# Altium footprint library BGA (1.27mm Pitch, Square5).PcbLib: 12 footprints (part 6 of 6)
Each footprint in its own frame and in the unit in brackets; x right, y up, seen from the top. Pads: shape width x height; smd on the part's side, far side on the other; paste and mask are expansions set on the pad; w line width, h text height; cw(c..) or ccw(c..) is an arc to the next point about the centre after c.
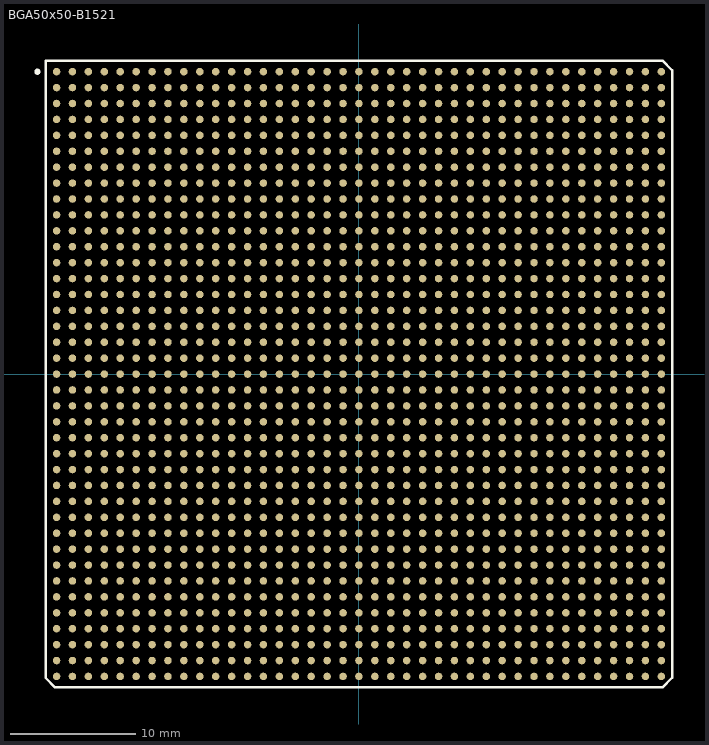
[diagram p5: the footprint, top view; thin cyan lines are the x and y axes]

## BGA50x50-B1521 [mm] "BGA; 1521 Balls; Body 50 x 50 mm; Pitch 1.27 mm"
height 3.5
pads (1521):
  round 0.6 smd: A1(-24.13,24.13) A2(-22.86,24.13) A3(-21.59,24.13) A4(-20.32,24.13) A5(-19.05,24.13) A6(-17.78,24.13) A7(-16.51,24.13) A8(-15.24,24.13) A9(-13.97,24.13) A10(-12.7,24.13) A11(-11.43,24.13) A12(-10.16,24.13) A13(-8.89,24.13) A14(-7.62,24.13) A15(-6.35,24.13) A16(-5.08,24.13) A17(-3.81,24.13) A18(-2.54,24.13) A19(-1.27,24.13) A20(0,24.13) A21(1.27,24.13) A22(2.54,24.13) A23(3.81,24.13) A24(5.08,24.13) A25(6.35,24.13) A26(7.62,24.13) A27(8.89,24.13) A28(10.16,24.13) A29(11.43,24.13) A30(12.7,24.13) A31(13.97,24.13) A32(15.24,24.13) A33(16.51,24.13) A34(17.78,24.13) A35(19.05,24.13) A36(20.32,24.13) A37(21.59,24.13) A38(22.86,24.13) A39(24.13,24.13) AA1(-24.13,-1.27) AA2(-22.86,-1.27) AA3(-21.59,-1.27) AA4(-20.32,-1.27) AA5(-19.05,-1.27) AA6(-17.78,-1.27) AA7(-16.51,-1.27) AA8(-15.24,-1.27) AA9(-13.97,-1.27) AA10(-12.7,-1.27) AA11(-11.43,-1.27) AA12(-10.16,-1.27) AA13(-8.89,-1.27) AA14(-7.62,-1.27) AA15(-6.35,-1.27) AA16(-5.08,-1.27) AA17(-3.81,-1.27) AA18(-2.54,-1.27) AA19(-1.27,-1.27) AA20(0,-1.27) AA21(1.27,-1.27) AA22(2.54,-1.27) AA23(3.81,-1.27) AA24(5.08,-1.27) AA25(6.35,-1.27) AA26(7.62,-1.27) AA27(8.89,-1.27) AA28(10.16,-1.27) AA29(11.43,-1.27) AA30(12.7,-1.27) AA31(13.97,-1.27) AA32(15.24,-1.27) AA33(16.51,-1.27) AA34(17.78,-1.27) AA35(19.05,-1.27) AA36(20.32,-1.27) AA37(21.59,-1.27) AA38(22.86,-1.27) AA39(24.13,-1.27) AB1(-24.13,-2.54) AB2(-22.86,-2.54) AB3(-21.59,-2.54) AB4(-20.32,-2.54) AB5(-19.05,-2.54) AB6(-17.78,-2.54) AB7(-16.51,-2.54) AB8(-15.24,-2.54) AB9(-13.97,-2.54) AB10(-12.7,-2.54) AB11(-11.43,-2.54) AB12(-10.16,-2.54) AB13(-8.89,-2.54) AB14(-7.62,-2.54) AB15(-6.35,-2.54) AB16(-5.08,-2.54) AB17(-3.81,-2.54) AB18(-2.54,-2.54) AB19(-1.27,-2.54) AB20(0,-2.54) AB21(1.27,-2.54) AB22(2.54,-2.54) AB23(3.81,-2.54) AB24(5.08,-2.54) AB25(6.35,-2.54) AB26(7.62,-2.54) AB27(8.89,-2.54) AB28(10.16,-2.54) AB29(11.43,-2.54) AB30(12.7,-2.54) AB31(13.97,-2.54) AB32(15.24,-2.54) AB33(16.51,-2.54) AB34(17.78,-2.54) AB35(19.05,-2.54) AB36(20.32,-2.54) AB37(21.59,-2.54) AB38(22.86,-2.54) AB39(24.13,-2.54) AC1(-24.13,-3.81) AC2(-22.86,-3.81) AC3(-21.59,-3.81) AC4(-20.32,-3.81) AC5(-19.05,-3.81) AC6(-17.78,-3.81) AC7(-16.51,-3.81) AC8(-15.24,-3.81) AC9(-13.97,-3.81) AC10(-12.7,-3.81) AC11(-11.43,-3.81) AC12(-10.16,-3.81) AC13(-8.89,-3.81) AC14(-7.62,-3.81) AC15(-6.35,-3.81) AC16(-5.08,-3.81) AC17(-3.81,-3.81) AC18(-2.54,-3.81) AC19(-1.27,-3.81) AC20(0,-3.81) AC21(1.27,-3.81) AC22(2.54,-3.81) AC23(3.81,-3.81) AC24(5.08,-3.81) AC25(6.35,-3.81) AC26(7.62,-3.81) AC27(8.89,-3.81) AC28(10.16,-3.81) AC29(11.43,-3.81) AC30(12.7,-3.81) AC31(13.97,-3.81) AC32(15.24,-3.81) AC33(16.51,-3.81) AC34(17.78,-3.81) AC35(19.05,-3.81) AC36(20.32,-3.81) AC37(21.59,-3.81) AC38(22.86,-3.81) AC39(24.13,-3.81) AD1(-24.13,-5.08) AD2(-22.86,-5.08) AD3(-21.59,-5.08) AD4(-20.32,-5.08) AD5(-19.05,-5.08) AD6(-17.78,-5.08) AD7(-16.51,-5.08) AD8(-15.24,-5.08) AD9(-13.97,-5.08) AD10(-12.7,-5.08) AD11(-11.43,-5.08) AD12(-10.16,-5.08) AD13(-8.89,-5.08) AD14(-7.62,-5.08) AD15(-6.35,-5.08) AD16(-5.08,-5.08) AD17(-3.81,-5.08) AD18(-2.54,-5.08) AD19(-1.27,-5.08) AD20(0,-5.08) AD21(1.27,-5.08) AD22(2.54,-5.08) AD23(3.81,-5.08) AD24(5.08,-5.08) AD25(6.35,-5.08) AD26(7.62,-5.08) AD27(8.89,-5.08) AD28(10.16,-5.08) AD29(11.43,-5.08) AD30(12.7,-5.08) AD31(13.97,-5.08) AD32(15.24,-5.08) AD33(16.51,-5.08) AD34(17.78,-5.08) AD35(19.05,-5.08) AD36(20.32,-5.08) AD37(21.59,-5.08) AD38(22.86,-5.08) AD39(24.13,-5.08) AE1(-24.13,-6.35) AE2(-22.86,-6.35) AE3(-21.59,-6.35) AE4(-20.32,-6.35) AE5(-19.05,-6.35) AE6(-17.78,-6.35) AE7(-16.51,-6.35) AE8(-15.24,-6.35) AE9(-13.97,-6.35) AE10(-12.7,-6.35) AE11(-11.43,-6.35) AE12(-10.16,-6.35) AE13(-8.89,-6.35) AE14(-7.62,-6.35) AE15(-6.35,-6.35) AE16(-5.08,-6.35) AE17(-3.81,-6.35) AE18(-2.54,-6.35) AE19(-1.27,-6.35) AE20(0,-6.35) AE21(1.27,-6.35) AE22(2.54,-6.35) AE23(3.81,-6.35) AE24(5.08,-6.35) AE25(6.35,-6.35) AE26(7.62,-6.35) AE27(8.89,-6.35) AE28(10.16,-6.35) AE29(11.43,-6.35) AE30(12.7,-6.35) AE31(13.97,-6.35) AE32(15.24,-6.35) AE33(16.51,-6.35) AE34(17.78,-6.35) AE35(19.05,-6.35) AE36(20.32,-6.35) AE37(21.59,-6.35) AE38(22.86,-6.35) AE39(24.13,-6.35) AF1(-24.13,-7.62) AF2(-22.86,-7.62) AF3(-21.59,-7.62) AF4(-20.32,-7.62) AF5(-19.05,-7.62) AF6(-17.78,-7.62) AF7(-16.51,-7.62) AF8(-15.24,-7.62) AF9(-13.97,-7.62) AF10(-12.7,-7.62) AF11(-11.43,-7.62) AF12(-10.16,-7.62) AF13(-8.89,-7.62) AF14(-7.62,-7.62) AF15(-6.35,-7.62) AF16(-5.08,-7.62) AF17(-3.81,-7.62) AF18(-2.54,-7.62) AF19(-1.27,-7.62) AF20(0,-7.62) AF21(1.27,-7.62) AF22(2.54,-7.62) AF23(3.81,-7.62) AF24(5.08,-7.62) AF25(6.35,-7.62) AF26(7.62,-7.62) AF27(8.89,-7.62) AF28(10.16,-7.62) AF29(11.43,-7.62) AF30(12.7,-7.62) AF31(13.97,-7.62) AF32(15.24,-7.62) AF33(16.51,-7.62) AF34(17.78,-7.62) AF35(19.05,-7.62) AF36(20.32,-7.62) AF37(21.59,-7.62) AF38(22.86,-7.62) AF39(24.13,-7.62) AG1(-24.13,-8.89) AG2(-22.86,-8.89) AG3(-21.59,-8.89) AG4(-20.32,-8.89) AG5(-19.05,-8.89) AG6(-17.78,-8.89) AG7(-16.51,-8.89) AG8(-15.24,-8.89) AG9(-13.97,-8.89) AG10(-12.7,-8.89) AG11(-11.43,-8.89) AG12(-10.16,-8.89) AG13(-8.89,-8.89) AG14(-7.62,-8.89) AG15(-6.35,-8.89) AG16(-5.08,-8.89) AG17(-3.81,-8.89) AG18(-2.54,-8.89) AG19(-1.27,-8.89) AG20(0,-8.89) AG21(1.27,-8.89) AG22(2.54,-8.89) AG23(3.81,-8.89) AG24(5.08,-8.89) AG25(6.35,-8.89) AG26(7.62,-8.89) AG27(8.89,-8.89) AG28(10.16,-8.89) AG29(11.43,-8.89) AG30(12.7,-8.89) AG31(13.97,-8.89) AG32(15.24,-8.89) AG33(16.51,-8.89) AG34(17.78,-8.89) AG35(19.05,-8.89) AG36(20.32,-8.89) AG37(21.59,-8.89) AG38(22.86,-8.89) AG39(24.13,-8.89) AH1(-24.13,-10.16) AH2(-22.86,-10.16) AH3(-21.59,-10.16) AH4(-20.32,-10.16) AH5(-19.05,-10.16) AH6(-17.78,-10.16) AH7(-16.51,-10.16) AH8(-15.24,-10.16) AH9(-13.97,-10.16) AH10(-12.7,-10.16) AH11(-11.43,-10.16) AH12(-10.16,-10.16) AH13(-8.89,-10.16) AH14(-7.62,-10.16) AH15(-6.35,-10.16) AH16(-5.08,-10.16) AH17(-3.81,-10.16) AH18(-2.54,-10.16) AH19(-1.27,-10.16) AH20(0,-10.16) AH21(1.27,-10.16) AH22(2.54,-10.16) AH23(3.81,-10.16) AH24(5.08,-10.16) AH25(6.35,-10.16) AH26(7.62,-10.16) AH27(8.89,-10.16) AH28(10.16,-10.16) AH29(11.43,-10.16) AH30(12.7,-10.16) AH31(13.97,-10.16) AH32(15.24,-10.16) AH33(16.51,-10.16) AH34(17.78,-10.16) AH35(19.05,-10.16) AH36(20.32,-10.16) AH37(21.59,-10.16) AH38(22.86,-10.16) AH39(24.13,-10.16) AJ1(-24.13,-11.43) AJ2(-22.86,-11.43) AJ3(-21.59,-11.43) AJ4(-20.32,-11.43) AJ5(-19.05,-11.43) AJ6(-17.78,-11.43) AJ7(-16.51,-11.43) AJ8(-15.24,-11.43) AJ9(-13.97,-11.43) AJ10(-12.7,-11.43) AJ11(-11.43,-11.43) AJ12(-10.16,-11.43) AJ13(-8.89,-11.43) AJ14(-7.62,-11.43) AJ15(-6.35,-11.43) AJ16(-5.08,-11.43) AJ17(-3.81,-11.43) AJ18(-2.54,-11.43) AJ19(-1.27,-11.43) AJ20(0,-11.43) AJ21(1.27,-11.43) AJ22(2.54,-11.43) AJ23(3.81,-11.43) AJ24(5.08,-11.43) AJ25(6.35,-11.43) AJ26(7.62,-11.43) AJ27(8.89,-11.43) AJ28(10.16,-11.43) AJ29(11.43,-11.43) AJ30(12.7,-11.43) AJ31(13.97,-11.43) AJ32(15.24,-11.43) AJ33(16.51,-11.43) AJ34(17.78,-11.43) AJ35(19.05,-11.43) AJ36(20.32,-11.43) AJ37(21.59,-11.43) AJ38(22.86,-11.43) AJ39(24.13,-11.43) AK1(-24.13,-12.7) AK2(-22.86,-12.7) AK3(-21.59,-12.7) AK4(-20.32,-12.7) AK5(-19.05,-12.7) AK6(-17.78,-12.7) AK7(-16.51,-12.7) AK8(-15.24,-12.7) AK9(-13.97,-12.7) AK10(-12.7,-12.7) AK11(-11.43,-12.7) AK12(-10.16,-12.7) AK13(-8.89,-12.7) AK14(-7.62,-12.7) AK15(-6.35,-12.7) AK16(-5.08,-12.7) AK17(-3.81,-12.7) AK18(-2.54,-12.7) AK19(-1.27,-12.7) AK20(0,-12.7) AK21(1.27,-12.7) AK22(2.54,-12.7) AK23(3.81,-12.7) AK24(5.08,-12.7) AK25(6.35,-12.7) AK26(7.62,-12.7) AK27(8.89,-12.7) AK28(10.16,-12.7) AK29(11.43,-12.7) AK30(12.7,-12.7) AK31(13.97,-12.7) AK32(15.24,-12.7) AK33(16.51,-12.7) AK34(17.78,-12.7) AK35(19.05,-12.7) AK36(20.32,-12.7) AK37(21.59,-12.7) AK38(22.86,-12.7) AK39(24.13,-12.7) AL1(-24.13,-13.97) AL2(-22.86,-13.97) AL3(-21.59,-13.97) AL4(-20.32,-13.97) AL5(-19.05,-13.97) AL6(-17.78,-13.97) AL7(-16.51,-13.97) AL8(-15.24,-13.97) AL9(-13.97,-13.97) AL10(-12.7,-13.97) AL11(-11.43,-13.97) AL12(-10.16,-13.97) AL13(-8.89,-13.97) AL14(-7.62,-13.97) AL15(-6.35,-13.97) AL16(-5.08,-13.97) AL17(-3.81,-13.97) AL18(-2.54,-13.97) AL19(-1.27,-13.97) AL20(0,-13.97) AL21(1.27,-13.97) AL22(2.54,-13.97) AL23(3.81,-13.97) AL24(5.08,-13.97) AL25(6.35,-13.97) AL26(7.62,-13.97) AL27(8.89,-13.97) AL28(10.16,-13.97) AL29(11.43,-13.97) AL30(12.7,-13.97) AL31(13.97,-13.97) AL32(15.24,-13.97) AL33(16.51,-13.97) AL34(17.78,-13.97) AL35(19.05,-13.97) AL36(20.32,-13.97) AL37(21.59,-13.97) AL38(22.86,-13.97) AL39(24.13,-13.97) AM1(-24.13,-15.24) AM2(-22.86,-15.24) AM3(-21.59,-15.24) AM4(-20.32,-15.24) AM5(-19.05,-15.24) AM6(-17.78,-15.24) AM7(-16.51,-15.24) AM8(-15.24,-15.24) AM9(-13.97,-15.24) AM10(-12.7,-15.24) AM11(-11.43,-15.24) AM12(-10.16,-15.24) AM13(-8.89,-15.24) AM14(-7.62,-15.24) AM15(-6.35,-15.24) AM16(-5.08,-15.24) AM17(-3.81,-15.24) AM18(-2.54,-15.24) AM19(-1.27,-15.24) AM20(0,-15.24) AM21(1.27,-15.24) AM22(2.54,-15.24) AM23(3.81,-15.24) AM24(5.08,-15.24) AM25(6.35,-15.24) AM26(7.62,-15.24) AM27(8.89,-15.24) AM28(10.16,-15.24) AM29(11.43,-15.24) AM30(12.7,-15.24) AM31(13.97,-15.24) AM32(15.24,-15.24) AM33(16.51,-15.24) AM34(17.78,-15.24) AM35(19.05,-15.24) AM36(20.32,-15.24) AM37(21.59,-15.24) AM38(22.86,-15.24) AM39(24.13,-15.24) AN1(-24.13,-16.51) AN2(-22.86,-16.51) AN3(-21.59,-16.51) AN4(-20.32,-16.51) AN5(-19.05,-16.51) AN6(-17.78,-16.51) AN7(-16.51,-16.51) AN8(-15.24,-16.51) AN9(-13.97,-16.51) AN10(-12.7,-16.51) AN11(-11.43,-16.51) AN12(-10.16,-16.51) AN13(-8.89,-16.51) AN14(-7.62,-16.51) AN15(-6.35,-16.51) AN16(-5.08,-16.51) AN17(-3.81,-16.51) AN18(-2.54,-16.51) AN19(-1.27,-16.51) AN20(0,-16.51) AN21(1.27,-16.51) AN22(2.54,-16.51) AN23(3.81,-16.51) AN24(5.08,-16.51) AN25(6.35,-16.51) AN26(7.62,-16.51) AN27(8.89,-16.51) AN28(10.16,-16.51) AN29(11.43,-16.51) AN30(12.7,-16.51) AN31(13.97,-16.51) AN32(15.24,-16.51) AN33(16.51,-16.51) AN34(17.78,-16.51) AN35(19.05,-16.51) AN36(20.32,-16.51) AN37(21.59,-16.51) AN38(22.86,-16.51) AN39(24.13,-16.51) AP1(-24.13,-17.78) AP2(-22.86,-17.78) AP3(-21.59,-17.78) AP4(-20.32,-17.78) AP5(-19.05,-17.78) AP6(-17.78,-17.78) AP7(-16.51,-17.78) AP8(-15.24,-17.78) AP9(-13.97,-17.78) AP10(-12.7,-17.78) AP11(-11.43,-17.78) AP12(-10.16,-17.78) AP13(-8.89,-17.78) AP14(-7.62,-17.78) AP15(-6.35,-17.78) AP16(-5.08,-17.78) AP17(-3.81,-17.78) AP18(-2.54,-17.78) AP19(-1.27,-17.78) AP20(0,-17.78) AP21(1.27,-17.78) AP22(2.54,-17.78) AP23(3.81,-17.78) AP24(5.08,-17.78) AP25(6.35,-17.78) AP26(7.62,-17.78) AP27(8.89,-17.78) AP28(10.16,-17.78) AP29(11.43,-17.78) AP30(12.7,-17.78) AP31(13.97,-17.78) AP32(15.24,-17.78) AP33(16.51,-17.78) AP34(17.78,-17.78) AP35(19.05,-17.78) AP36(20.32,-17.78) AP37(21.59,-17.78) AP38(22.86,-17.78) AP39(24.13,-17.78) AR1(-24.13,-19.05) AR2(-22.86,-19.05) AR3(-21.59,-19.05) AR4(-20.32,-19.05) AR5(-19.05,-19.05) AR6(-17.78,-19.05) AR7(-16.51,-19.05) AR8(-15.24,-19.05) AR9(-13.97,-19.05) AR10(-12.7,-19.05) AR11(-11.43,-19.05) AR12(-10.16,-19.05) AR13(-8.89,-19.05) AR14(-7.62,-19.05) AR15(-6.35,-19.05) AR16(-5.08,-19.05) AR17(-3.81,-19.05) AR18(-2.54,-19.05) AR19(-1.27,-19.05) AR20(0,-19.05) AR21(1.27,-19.05) AR22(2.54,-19.05) AR23(3.81,-19.05) AR24(5.08,-19.05) AR25(6.35,-19.05) AR26(7.62,-19.05) AR27(8.89,-19.05) AR28(10.16,-19.05) AR29(11.43,-19.05) AR30(12.7,-19.05) AR31(13.97,-19.05) AR32(15.24,-19.05) AR33(16.51,-19.05) AR34(17.78,-19.05) AR35(19.05,-19.05) AR36(20.32,-19.05) AR37(21.59,-19.05) AR38(22.86,-19.05) AR39(24.13,-19.05) AT1(-24.13,-20.32) AT2(-22.86,-20.32) AT3(-21.59,-20.32) AT4(-20.32,-20.32) AT5(-19.05,-20.32) AT6(-17.78,-20.32) AT7(-16.51,-20.32) AT8(-15.24,-20.32) AT9(-13.97,-20.32) AT10(-12.7,-20.32) AT11(-11.43,-20.32) AT12(-10.16,-20.32) AT13(-8.89,-20.32) AT14(-7.62,-20.32) AT15(-6.35,-20.32) AT16(-5.08,-20.32) AT17(-3.81,-20.32) AT18(-2.54,-20.32) AT19(-1.27,-20.32) AT20(0,-20.32) AT21(1.27,-20.32) AT22(2.54,-20.32) AT23(3.81,-20.32) AT24(5.08,-20.32) AT25(6.35,-20.32) AT26(7.62,-20.32) AT27(8.89,-20.32) AT28(10.16,-20.32) AT29(11.43,-20.32) AT30(12.7,-20.32) AT31(13.97,-20.32) AT32(15.24,-20.32) AT33(16.51,-20.32) AT34(17.78,-20.32) AT35(19.05,-20.32) AT36(20.32,-20.32) AT37(21.59,-20.32) AT38(22.86,-20.32) AT39(24.13,-20.32) AU1(-24.13,-21.59) AU2(-22.86,-21.59) AU3(-21.59,-21.59) AU4(-20.32,-21.59) AU5(-19.05,-21.59) AU6(-17.78,-21.59) AU7(-16.51,-21.59) AU8(-15.24,-21.59) AU9(-13.97,-21.59) AU10(-12.7,-21.59) AU11(-11.43,-21.59) AU12(-10.16,-21.59) AU13(-8.89,-21.59) AU14(-7.62,-21.59) AU15(-6.35,-21.59) AU16(-5.08,-21.59) AU17(-3.81,-21.59) AU18(-2.54,-21.59) AU19(-1.27,-21.59) AU20(0,-21.59) AU21(1.27,-21.59) AU22(2.54,-21.59) AU23(3.81,-21.59) AU24(5.08,-21.59) AU25(6.35,-21.59) AU26(7.62,-21.59) AU27(8.89,-21.59) AU28(10.16,-21.59) AU29(11.43,-21.59) AU30(12.7,-21.59) AU31(13.97,-21.59) AU32(15.24,-21.59) AU33(16.51,-21.59) AU34(17.78,-21.59) AU35(19.05,-21.59) AU36(20.32,-21.59) AU37(21.59,-21.59) AU38(22.86,-21.59) AU39(24.13,-21.59) AV1(-24.13,-22.86) AV2(-22.86,-22.86) AV3(-21.59,-22.86) AV4(-20.32,-22.86) AV5(-19.05,-22.86) AV6(-17.78,-22.86) AV7(-16.51,-22.86) AV8(-15.24,-22.86) AV9(-13.97,-22.86) AV10(-12.7,-22.86) AV11(-11.43,-22.86) AV12(-10.16,-22.86) AV13(-8.89,-22.86) AV14(-7.62,-22.86) AV15(-6.35,-22.86) AV16(-5.08,-22.86) AV17(-3.81,-22.86) AV18(-2.54,-22.86) AV19(-1.27,-22.86) AV20(0,-22.86) AV21(1.27,-22.86) AV22(2.54,-22.86) AV23(3.81,-22.86) AV24(5.08,-22.86) AV25(6.35,-22.86) AV26(7.62,-22.86) AV27(8.89,-22.86) AV28(10.16,-22.86) AV29(11.43,-22.86) AV30(12.7,-22.86) AV31(13.97,-22.86) AV32(15.24,-22.86) AV33(16.51,-22.86) AV34(17.78,-22.86) AV35(19.05,-22.86) AV36(20.32,-22.86) AV37(21.59,-22.86) AV38(22.86,-22.86) AV39(24.13,-22.86) AW1(-24.13,-24.13) AW2(-22.86,-24.13) AW3(-21.59,-24.13) AW4(-20.32,-24.13) AW5(-19.05,-24.13) AW6(-17.78,-24.13) AW7(-16.51,-24.13) AW8(-15.24,-24.13) AW9(-13.97,-24.13) AW10(-12.7,-24.13) AW11(-11.43,-24.13) AW12(-10.16,-24.13) AW13(-8.89,-24.13) AW14(-7.62,-24.13) AW15(-6.35,-24.13) AW16(-5.08,-24.13) AW17(-3.81,-24.13) AW18(-2.54,-24.13) AW19(-1.27,-24.13) AW20(0,-24.13) AW21(1.27,-24.13) AW22(2.54,-24.13) AW23(3.81,-24.13) AW24(5.08,-24.13) AW25(6.35,-24.13) AW26(7.62,-24.13) AW27(8.89,-24.13) AW28(10.16,-24.13) AW29(11.43,-24.13) AW30(12.7,-24.13) AW31(13.97,-24.13) AW32(15.24,-24.13) AW33(16.51,-24.13) AW34(17.78,-24.13) AW35(19.05,-24.13) AW36(20.32,-24.13) AW37(21.59,-24.13) AW38(22.86,-24.13) AW39(24.13,-24.13) B1(-24.13,22.86) B2(-22.86,22.86) B3(-21.59,22.86) B4(-20.32,22.86) B5(-19.05,22.86) B6(-17.78,22.86) B7(-16.51,22.86) B8(-15.24,22.86) B9(-13.97,22.86) B10(-12.7,22.86) B11(-11.43,22.86) B12(-10.16,22.86) B13(-8.89,22.86) B14(-7.62,22.86) B15(-6.35,22.86) B16(-5.08,22.86) B17(-3.81,22.86) B18(-2.54,22.86) B19(-1.27,22.86) B20(0,22.86) B21(1.27,22.86) B22(2.54,22.86) B23(3.81,22.86) B24(5.08,22.86) B25(6.35,22.86) B26(7.62,22.86) B27(8.89,22.86) B28(10.16,22.86) B29(11.43,22.86) B30(12.7,22.86) B31(13.97,22.86) B32(15.24,22.86) B33(16.51,22.86) B34(17.78,22.86) B35(19.05,22.86) B36(20.32,22.86) B37(21.59,22.86) B38(22.86,22.86) B39(24.13,22.86) C1(-24.13,21.59) C2(-22.86,21.59) C3(-21.59,21.59) C4(-20.32,21.59) C5(-19.05,21.59) C6(-17.78,21.59) C7(-16.51,21.59) C8(-15.24,21.59) C9(-13.97,21.59) C10(-12.7,21.59) C11(-11.43,21.59) C12(-10.16,21.59) C13(-8.89,21.59) C14(-7.62,21.59) C15(-6.35,21.59) C16(-5.08,21.59) C17(-3.81,21.59) C18(-2.54,21.59) C19(-1.27,21.59) C20(0,21.59) C21(1.27,21.59) C22(2.54,21.59) C23(3.81,21.59) C24(5.08,21.59) C25(6.35,21.59) C26(7.62,21.59) C27(8.89,21.59) C28(10.16,21.59) C29(11.43,21.59) C30(12.7,21.59) C31(13.97,21.59) C32(15.24,21.59) C33(16.51,21.59) C34(17.78,21.59) C35(19.05,21.59) C36(20.32,21.59) C37(21.59,21.59) C38(22.86,21.59) C39(24.13,21.59) D1(-24.13,20.32) D2(-22.86,20.32) D3(-21.59,20.32) D4(-20.32,20.32) D5(-19.05,20.32) D6(-17.78,20.32) D7(-16.51,20.32) D8(-15.24,20.32) D9(-13.97,20.32) D10(-12.7,20.32) D11(-11.43,20.32) D12(-10.16,20.32) D13(-8.89,20.32) D14(-7.62,20.32) D15(-6.35,20.32) D16(-5.08,20.32) D17(-3.81,20.32) D18(-2.54,20.32) D19(-1.27,20.32) D20(0,20.32) D21(1.27,20.32) D22(2.54,20.32) D23(3.81,20.32) D24(5.08,20.32) D25(6.35,20.32) D26(7.62,20.32) D27(8.89,20.32) D28(10.16,20.32) D29(11.43,20.32) D30(12.7,20.32) D31(13.97,20.32) D32(15.24,20.32) D33(16.51,20.32) D34(17.78,20.32) D35(19.05,20.32) D36(20.32,20.32) D37(21.59,20.32) D38(22.86,20.32) D39(24.13,20.32) E1(-24.13,19.05) E2(-22.86,19.05) E3(-21.59,19.05) E4(-20.32,19.05) E5(-19.05,19.05) E6(-17.78,19.05) E7(-16.51,19.05) E8(-15.24,19.05) E9(-13.97,19.05) E10(-12.7,19.05) E11(-11.43,19.05) E12(-10.16,19.05) E13(-8.89,19.05) E14(-7.62,19.05) E15(-6.35,19.05) E16(-5.08,19.05) E17(-3.81,19.05) E18(-2.54,19.05) E19(-1.27,19.05) E20(0,19.05) E21(1.27,19.05) E22(2.54,19.05) E23(3.81,19.05) E24(5.08,19.05) E25(6.35,19.05) E26(7.62,19.05) E27(8.89,19.05) E28(10.16,19.05) E29(11.43,19.05) E30(12.7,19.05) E31(13.97,19.05) E32(15.24,19.05) E33(16.51,19.05) E34(17.78,19.05) E35(19.05,19.05) E36(20.32,19.05) E37(21.59,19.05) E38(22.86,19.05) E39(24.13,19.05) F1(-24.13,17.78) F2(-22.86,17.78) F3(-21.59,17.78) F4(-20.32,17.78) F5(-19.05,17.78) F6(-17.78,17.78) F7(-16.51,17.78) F8(-15.24,17.78) F9(-13.97,17.78) F10(-12.7,17.78) F11(-11.43,17.78) F12(-10.16,17.78) F13(-8.89,17.78) F14(-7.62,17.78) F15(-6.35,17.78) F16(-5.08,17.78) F17(-3.81,17.78) F18(-2.54,17.78) F19(-1.27,17.78) F20(0,17.78) F21(1.27,17.78) F22(2.54,17.78) F23(3.81,17.78) F24(5.08,17.78) F25(6.35,17.78) F26(7.62,17.78) F27(8.89,17.78) F28(10.16,17.78) F29(11.43,17.78) F30(12.7,17.78) F31(13.97,17.78) F32(15.24,17.78) F33(16.51,17.78) F34(17.78,17.78) F35(19.05,17.78) F36(20.32,17.78) F37(21.59,17.78) F38(22.86,17.78) F39(24.13,17.78) G1(-24.13,16.51) G2(-22.86,16.51) G3(-21.59,16.51) G4(-20.32,16.51) G5(-19.05,16.51) G6(-17.78,16.51) G7(-16.51,16.51) G8(-15.24,16.51) G9(-13.97,16.51) G10(-12.7,16.51) G11(-11.43,16.51) G12(-10.16,16.51) G13(-8.89,16.51) G14(-7.62,16.51) G15(-6.35,16.51) G16(-5.08,16.51) G17(-3.81,16.51) G18(-2.54,16.51) G19(-1.27,16.51) G20(0,16.51) G21(1.27,16.51) G22(2.54,16.51) G23(3.81,16.51) G24(5.08,16.51) G25(6.35,16.51) G26(7.62,16.51) G27(8.89,16.51) G28(10.16,16.51) G29(11.43,16.51) G30(12.7,16.51) G31(13.97,16.51) G32(15.24,16.51) G33(16.51,16.51) G34(17.78,16.51) G35(19.05,16.51) G36(20.32,16.51) G37(21.59,16.51) G38(22.86,16.51) G39(24.13,16.51) H1(-24.13,15.24) H2(-22.86,15.24) H3(-21.59,15.24) H4(-20.32,15.24) H5(-19.05,15.24) H6(-17.78,15.24) H7(-16.51,15.24) H8(-15.24,15.24) H9(-13.97,15.24) H10(-12.7,15.24) H11(-11.43,15.24) H12(-10.16,15.24) H13(-8.89,15.24) H14(-7.62,15.24) H15(-6.35,15.24) H16(-5.08,15.24) H17(-3.81,15.24) H18(-2.54,15.24) H19(-1.27,15.24) H20(0,15.24) H21(1.27,15.24) H22(2.54,15.24) H23(3.81,15.24) H24(5.08,15.24) H25(6.35,15.24) H26(7.62,15.24) H27(8.89,15.24) H28(10.16,15.24) H29(11.43,15.24) H30(12.7,15.24) H31(13.97,15.24) H32(15.24,15.24) H33(16.51,15.24) H34(17.78,15.24) H35(19.05,15.24) H36(20.32,15.24) H37(21.59,15.24) H38(22.86,15.24) H39(24.13,15.24) J1(-24.13,13.97) J2(-22.86,13.97) J3(-21.59,13.97) J4(-20.32,13.97) J5(-19.05,13.97) J6(-17.78,13.97) J7(-16.51,13.97) J8(-15.24,13.97) J9(-13.97,13.97) J10(-12.7,13.97) J11(-11.43,13.97) J12(-10.16,13.97) J13(-8.89,13.97) J14(-7.62,13.97) J15(-6.35,13.97) J16(-5.08,13.97) J17(-3.81,13.97) J18(-2.54,13.97) J19(-1.27,13.97) J20(0,13.97) J21(1.27,13.97) J22(2.54,13.97) J23(3.81,13.97) J24(5.08,13.97) J25(6.35,13.97) J26(7.62,13.97) J27(8.89,13.97) J28(10.16,13.97) J29(11.43,13.97) J30(12.7,13.97) J31(13.97,13.97) J32(15.24,13.97) J33(16.51,13.97) J34(17.78,13.97) J35(19.05,13.97) J36(20.32,13.97) J37(21.59,13.97) J38(22.86,13.97) J39(24.13,13.97) K1(-24.13,12.7) K2(-22.86,12.7) K3(-21.59,12.7) K4(-20.32,12.7) K5(-19.05,12.7) K6(-17.78,12.7) K7(-16.51,12.7) K8(-15.24,12.7) K9(-13.97,12.7) K10(-12.7,12.7) K11(-11.43,12.7) K12(-10.16,12.7) K13(-8.89,12.7) K14(-7.62,12.7) K15(-6.35,12.7) K16(-5.08,12.7) K17(-3.81,12.7) K18(-2.54,12.7) K19(-1.27,12.7) K20(0,12.7) K21(1.27,12.7) K22(2.54,12.7) K23(3.81,12.7) K24(5.08,12.7) K25(6.35,12.7) K26(7.62,12.7) K27(8.89,12.7) K28(10.16,12.7) K29(11.43,12.7) K30(12.7,12.7) K31(13.97,12.7) K32(15.24,12.7) K33(16.51,12.7) K34(17.78,12.7) K35(19.05,12.7) K36(20.32,12.7) K37(21.59,12.7) K38(22.86,12.7) K39(24.13,12.7) L1(-24.13,11.43) L2(-22.86,11.43) L3(-21.59,11.43) L4(-20.32,11.43) L5(-19.05,11.43) L6(-17.78,11.43) L7(-16.51,11.43) L8(-15.24,11.43) L9(-13.97,11.43) L10(-12.7,11.43) L11(-11.43,11.43) L12(-10.16,11.43) L13(-8.89,11.43) L14(-7.62,11.43) L15(-6.35,11.43) L16(-5.08,11.43) L17(-3.81,11.43) L18(-2.54,11.43) L19(-1.27,11.43) L20(0,11.43) L21(1.27,11.43) L22(2.54,11.43) L23(3.81,11.43) L24(5.08,11.43) L25(6.35,11.43) L26(7.62,11.43) L27(8.89,11.43) L28(10.16,11.43) L29(11.43,11.43) L30(12.7,11.43) L31(13.97,11.43) L32(15.24,11.43) L33(16.51,11.43) L34(17.78,11.43) L35(19.05,11.43) L36(20.32,11.43) L37(21.59,11.43) L38(22.86,11.43) L39(24.13,11.43) M1(-24.13,10.16) M2(-22.86,10.16) M3(-21.59,10.16) M4(-20.32,10.16) M5(-19.05,10.16) M6(-17.78,10.16) M7(-16.51,10.16) M8(-15.24,10.16) M9(-13.97,10.16) M10(-12.7,10.16) M11(-11.43,10.16) M12(-10.16,10.16) M13(-8.89,10.16) M14(-7.62,10.16) M15(-6.35,10.16) M16(-5.08,10.16) M17(-3.81,10.16) M18(-2.54,10.16) M19(-1.27,10.16) M20(0,10.16) M21(1.27,10.16) M22(2.54,10.16) M23(3.81,10.16) M24(5.08,10.16) M25(6.35,10.16) M26(7.62,10.16) M27(8.89,10.16) M28(10.16,10.16) M29(11.43,10.16) M30(12.7,10.16) M31(13.97,10.16) M32(15.24,10.16) M33(16.51,10.16) M34(17.78,10.16) M35(19.05,10.16) M36(20.32,10.16) M37(21.59,10.16) M38(22.86,10.16) M39(24.13,10.16) N1(-24.13,8.89) N2(-22.86,8.89) N3(-21.59,8.89) N4(-20.32,8.89) N5(-19.05,8.89) N6(-17.78,8.89) N7(-16.51,8.89) N8(-15.24,8.89) N9(-13.97,8.89) N10(-12.7,8.89) N11(-11.43,8.89) N12(-10.16,8.89) N13(-8.89,8.89) N14(-7.62,8.89) N15(-6.35,8.89) N16(-5.08,8.89) N17(-3.81,8.89) N18(-2.54,8.89) N19(-1.27,8.89) N20(0,8.89) N21(1.27,8.89) N22(2.54,8.89) N23(3.81,8.89) N24(5.08,8.89) N25(6.35,8.89) N26(7.62,8.89) N27(8.89,8.89) N28(10.16,8.89) N29(11.43,8.89) N30(12.7,8.89) N31(13.97,8.89) N32(15.24,8.89) N33(16.51,8.89) N34(17.78,8.89) N35(19.05,8.89) N36(20.32,8.89) N37(21.59,8.89) N38(22.86,8.89) N39(24.13,8.89) P1(-24.13,7.62) P2(-22.86,7.62) P3(-21.59,7.62) P4(-20.32,7.62) P5(-19.05,7.62) P6(-17.78,7.62) P7(-16.51,7.62) P8(-15.24,7.62) P9(-13.97,7.62) P10(-12.7,7.62) P11(-11.43,7.62) P12(-10.16,7.62) P13(-8.89,7.62) P14(-7.62,7.62) P15(-6.35,7.62) P16(-5.08,7.62) P17(-3.81,7.62) P18(-2.54,7.62) P19(-1.27,7.62) P20(0,7.62) P21(1.27,7.62) P22(2.54,7.62) P23(3.81,7.62) P24(5.08,7.62) P25(6.35,7.62) P26(7.62,7.62) P27(8.89,7.62) P28(10.16,7.62) P29(11.43,7.62) P30(12.7,7.62) P31(13.97,7.62) P32(15.24,7.62) P33(16.51,7.62) P34(17.78,7.62) P35(19.05,7.62) P36(20.32,7.62) P37(21.59,7.62) P38(22.86,7.62) P39(24.13,7.62) R1(-24.13,6.35) R2(-22.86,6.35) R3(-21.59,6.35) R4(-20.32,6.35) R5(-19.05,6.35) R6(-17.78,6.35) R7(-16.51,6.35) R8(-15.24,6.35) R9(-13.97,6.35) R10(-12.7,6.35) R11(-11.43,6.35) R12(-10.16,6.35) R13(-8.89,6.35) R14(-7.62,6.35) R15(-6.35,6.35) R16(-5.08,6.35) R17(-3.81,6.35) R18(-2.54,6.35) R19(-1.27,6.35) R20(0,6.35) R21(1.27,6.35) R22(2.54,6.35) R23(3.81,6.35) R24(5.08,6.35) R25(6.35,6.35) R26(7.62,6.35) R27(8.89,6.35) R28(10.16,6.35) R29(11.43,6.35) R30(12.7,6.35) R31(13.97,6.35) R32(15.24,6.35) R33(16.51,6.35) R34(17.78,6.35) R35(19.05,6.35) R36(20.32,6.35) R37(21.59,6.35) R38(22.86,6.35) R39(24.13,6.35) T1(-24.13,5.08) T2(-22.86,5.08) T3(-21.59,5.08) T4(-20.32,5.08) T5(-19.05,5.08) T6(-17.78,5.08) T7(-16.51,5.08) T8(-15.24,5.08) T9(-13.97,5.08) T10(-12.7,5.08) T11(-11.43,5.08) T12(-10.16,5.08) T13(-8.89,5.08) T14(-7.62,5.08) T15(-6.35,5.08) T16(-5.08,5.08) T17(-3.81,5.08) T18(-2.54,5.08) T19(-1.27,5.08) T20(0,5.08) T21(1.27,5.08) T22(2.54,5.08) T23(3.81,5.08) T24(5.08,5.08) T25(6.35,5.08) T26(7.62,5.08) T27(8.89,5.08) T28(10.16,5.08) T29(11.43,5.08) T30(12.7,5.08) T31(13.97,5.08) T32(15.24,5.08) T33(16.51,5.08) T34(17.78,5.08) T35(19.05,5.08) T36(20.32,5.08) T37(21.59,5.08) T38(22.86,5.08) T39(24.13,5.08) U1(-24.13,3.81) U2(-22.86,3.81) U3(-21.59,3.81) U4(-20.32,3.81) U5(-19.05,3.81) U6(-17.78,3.81) U7(-16.51,3.81) U8(-15.24,3.81) U9(-13.97,3.81) U10(-12.7,3.81) U11(-11.43,3.81) U12(-10.16,3.81) U13(-8.89,3.81) U14(-7.62,3.81) U15(-6.35,3.81) U16(-5.08,3.81) U17(-3.81,3.81) U18(-2.54,3.81) U19(-1.27,3.81) U20(0,3.81) U21(1.27,3.81) U22(2.54,3.81) U23(3.81,3.81) U24(5.08,3.81) U25(6.35,3.81) U26(7.62,3.81) U27(8.89,3.81) U28(10.16,3.81) U29(11.43,3.81) U30(12.7,3.81) U31(13.97,3.81) U32(15.24,3.81) U33(16.51,3.81) U34(17.78,3.81) U35(19.05,3.81) U36(20.32,3.81) U37(21.59,3.81) U38(22.86,3.81) U39(24.13,3.81) V1(-24.13,2.54) V2(-22.86,2.54) V3(-21.59,2.54) V4(-20.32,2.54) V5(-19.05,2.54) V6(-17.78,2.54) V7(-16.51,2.54) V8(-15.24,2.54) V9(-13.97,2.54) V10(-12.7,2.54) V11(-11.43,2.54) V12(-10.16,2.54) V13(-8.89,2.54) V14(-7.62,2.54) V15(-6.35,2.54) V16(-5.08,2.54) V17(-3.81,2.54) V18(-2.54,2.54) V19(-1.27,2.54) V20(0,2.54) V21(1.27,2.54) V22(2.54,2.54) V23(3.81,2.54) V24(5.08,2.54) V25(6.35,2.54) V26(7.62,2.54) V27(8.89,2.54) V28(10.16,2.54) V29(11.43,2.54) V30(12.7,2.54) V31(13.97,2.54) V32(15.24,2.54) V33(16.51,2.54) V34(17.78,2.54) V35(19.05,2.54) V36(20.32,2.54) V37(21.59,2.54) V38(22.86,2.54) V39(24.13,2.54) W1(-24.13,1.27) W2(-22.86,1.27) W3(-21.59,1.27) W4(-20.32,1.27) W5(-19.05,1.27) W6(-17.78,1.27) W7(-16.51,1.27) W8(-15.24,1.27) W9(-13.97,1.27) W10(-12.7,1.27) W11(-11.43,1.27) W12(-10.16,1.27) W13(-8.89,1.27) W14(-7.62,1.27) W15(-6.35,1.27) W16(-5.08,1.27) W17(-3.81,1.27) W18(-2.54,1.27) W19(-1.27,1.27) W20(0,1.27) W21(1.27,1.27) W22(2.54,1.27) W23(3.81,1.27) W24(5.08,1.27) W25(6.35,1.27) W26(7.62,1.27) W27(8.89,1.27) W28(10.16,1.27) W29(11.43,1.27) W30(12.7,1.27) W31(13.97,1.27) W32(15.24,1.27) W33(16.51,1.27) W34(17.78,1.27) W35(19.05,1.27) W36(20.32,1.27) W37(21.59,1.27) W38(22.86,1.27) W39(24.13,1.27) Y1(-24.13,0) Y2(-22.86,0) Y3(-21.59,0) Y4(-20.32,0) Y5(-19.05,0) Y6(-17.78,0) Y7(-16.51,0) Y8(-15.24,0) Y9(-13.97,0) Y10(-12.7,0) Y11(-11.43,0) Y12(-10.16,0) Y13(-8.89,0) Y14(-7.62,0) Y15(-6.35,0) Y16(-5.08,0) Y17(-3.81,0) Y18(-2.54,0) Y19(-1.27,0) Y20(0,0) Y21(1.27,0) Y22(2.54,0) Y23(3.81,0) Y24(5.08,0) Y25(6.35,0) Y26(7.62,0) Y27(8.89,0) Y28(10.16,0) Y29(11.43,0) Y30(12.7,0) Y31(13.97,0) Y32(15.24,0) Y33(16.51,0) Y34(17.78,0) Y35(19.05,0) Y36(20.32,0) Y37(21.59,0) Y38(22.86,0) Y39(24.13,0)
Top Overlay:
  circle w0.25: c-25.66,24.13 r0.125
  lines w0.2: -25.005,-24.235 -25.005,25.005 24.235,25.005 24.995,24.245 24.995,-24.235 24.235,-24.995 -24.245,-24.995 -25.005,-24.235